# Altium footprint library LED_3mm_RED.PcbLib: 1 footprints
Each footprint in its own frame and in the unit in brackets; x right, y up, seen from the top. Pads: shape width x height; smd on the part's side, far side on the other; paste and mask are expansions set on the pad; w line width, h text height; cw(c..) or ccw(c..) is an arc to the next point about the centre after c.
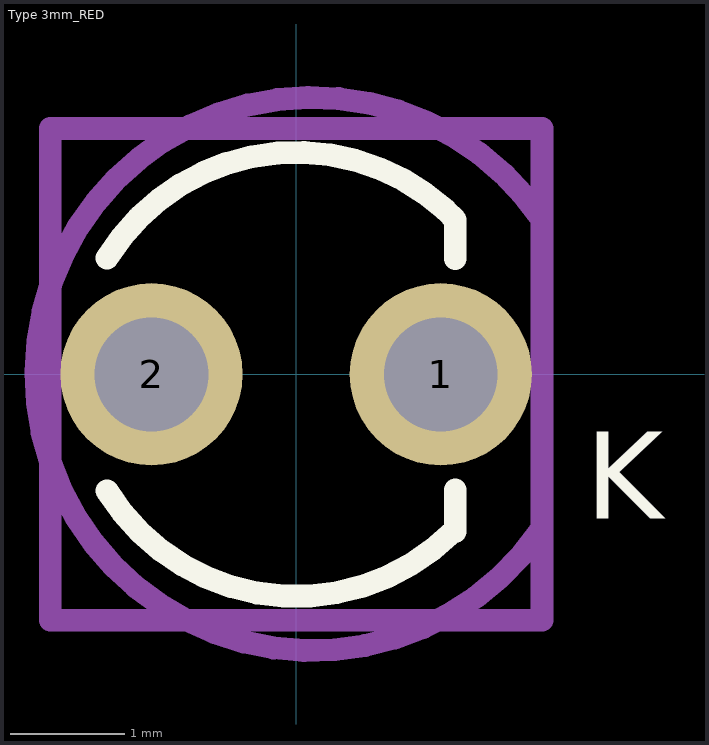
[diagram p0: the footprint, top view; thin cyan lines are the x and y axes]

## Type 3mm_RED [mm] "THT, LED-3mm, 2pin- Body 4.15mm(max)"
height 10.9
pads (2):
  round 1.6 hole 1: 1(1.27,0) 2(-1.27,0)
Top Overlay:
  lines w0.2: -1.661,-1.022 ccw(c0,0) 1.379,-1.379 ; -1.661,1.022 cw(c0,0) 1.312,1.443 1.397,1.358 1.397,1.016 ; 1.397,-1.379 1.397,-1.016
  text "K" at 2.54,-1.27 h0.76
Mechanical 13:
  lines w0.2: -2.159,-2.159 2.159,-2.159 2.159,2.159 -2.159,2.159 -2.159,-2.159
Mechanical 15:
  lines w0.2: 2.139,-1.38 cw(c0.143,0.003) 2.159,1.358 2.159,-1.379
  text "K" at 2.54,-1.27 h0.76
  text ".Designator" at 0,0 h0.76
3D body "LED 3MM RED.STEP": height 11.45, standoff -8.15, extent -1.6,-1.6 1.6,1.6